# Altium schematic symbol library Coiltronics.SchLib: 1 symbol
Pins are listed as number, name and electrical type; pins without a type are passive.

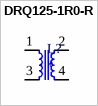
[diagram p0: symbol DRQ125-1R0-R]

## DRQ125-1R0-R
designator L?
Dual Winding, Shielded Inductors/Transformer
footprint DRQ125
pins: 1, 2, 3, 4